# Altium footprint library PALib.PcbLib: 29 footprints (part 1 of 2)
Each footprint in its own frame and in the unit in brackets; x right, y up, seen from the top. Pads: shape width x height; smd on the part's side, far side on the other; paste and mask are expansions set on the pad; w line width, h text height; cw(c..) or ccw(c..) is an arc to the next point about the centre after c.
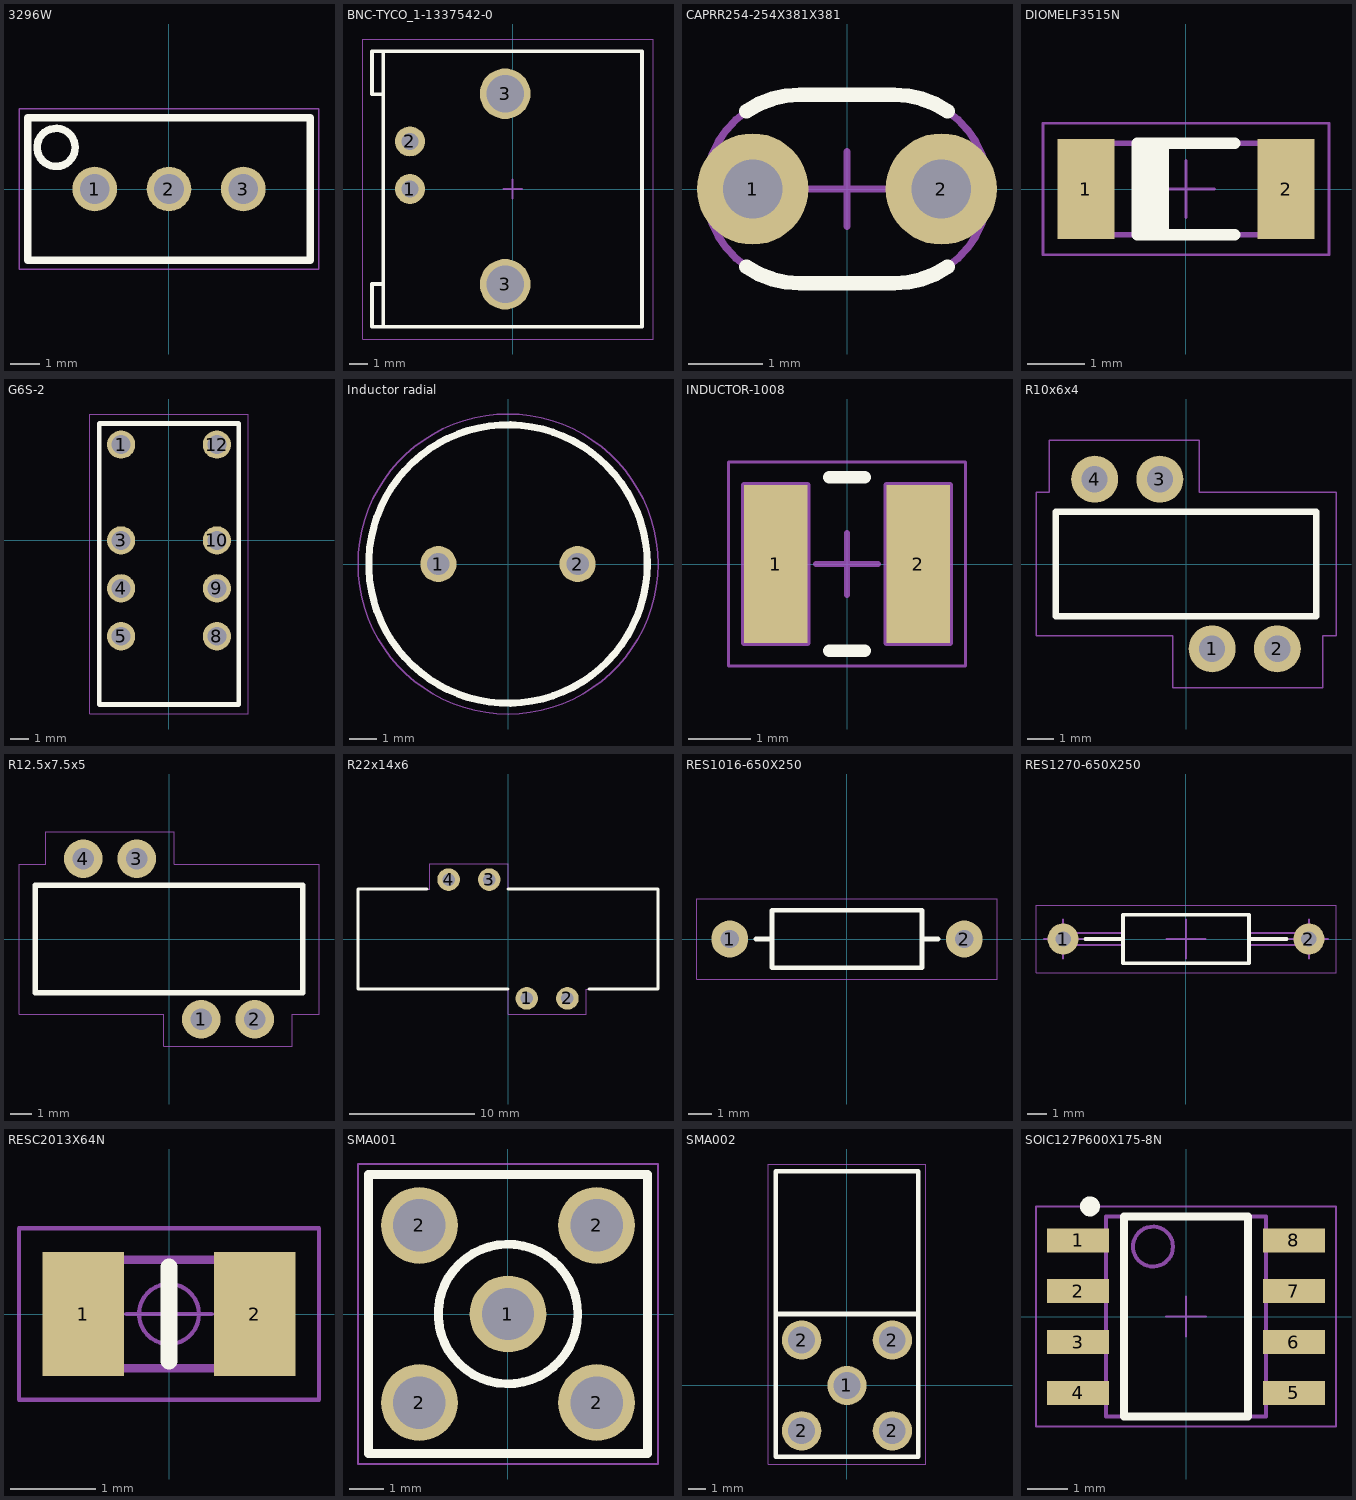
[diagram p0: the footprints below, top view; thin cyan lines are the x and y axes]

## 3296W [mm] "Square Trimming Potentiometer"
height 12
pads (3):
  round 1.5 hole 1: 1(-2.5,0) 2(0,0) 3(2.5,0)
Top Overlay:
  circle w0.254: c-3.8,1.4 r0.64
  lines w0.254: -4.75,-2.4 4.75,-2.4 4.75,2.4 -4.75,2.4 -4.75,-2.4
Top Courtyard:
  lines w0.05: -5.05,-2.7 5.05,-2.7 5.05,2.7 -5.05,2.7 -5.05,-2.7
3D body "Potentiometer-3296_Bourns.STEP": height 11.55, standoff -7.62, extent -4.765,-2.415 4.765,2.415

## BNC-TYCO_1-1337542-0 [mm] "50 Ohms  BNC Elbow PCB Socket With Mounting Posts"
height 13.16
pads (4):
  round 1.6 hole 0.9: 1(-5.48,0) 2(-5.48,2.54)
  round 2.7 hole 2: 3(-0.4,-5.08) 3(-0.4,5.08)
Top Overlay:
  lines w0.2: -6.9,-7.35 -6.9,7.35 ; -6.9,-5.061 -7.5,-5.061 -7.5,-7.35 6.9,-7.35 6.9,7.35 -7.5,7.35 -7.5,5.061 -6.9,5.05
Mechanical 8:
  lines w0.1: -5.98,0 -5.48,0 ; -5.98,2.54 -5.48,2.54 ; -5.48,-0.5 -5.48,0 ; -5.48,0.5 -5.48,0 ; -5.48,2.04 -5.48,2.54 ; -5.48,3.04 -5.48,2.54 ; -4.98,0 -5.48,0 ; -4.98,2.54 -5.48,2.54 ; -0.9,-5.08 -0.4,-5.08 ; -0.9,5.08 -0.4,5.08 ; -0.5,0 0,0 ; -0.4,-5.58 -0.4,-5.08 ; -0.4,-4.58 -0.4,-5.08 ; -0.4,4.58 -0.4,5.08 ; -0.4,5.58 -0.4,5.08 ; 0,-0.5 0,0 ; 0,0.5 0,0 ; 0.1,-5.08 -0.4,-5.08 ; 0.1,5.08 -0.4,5.08 ; 0.5,0 0,0
Mechanical 14:
  lines w0.1: -6.9,-7.35 -6.9,7.35 ; -6.9,-5.061 -7.5,-5.061 -7.5,-7.35 6.9,-7.35 6.9,7.35 -7.5,7.35 -7.5,5.061 -6.9,5.05
Top Courtyard:
  lines w0.05: -8,-8 7.5,-8 7.5,8 -8,8 -8,-8
3D body "TYCO_1-1337542-0.stp": height 13.16, standoff -4.3, extent -7.5,-7.35 28,7.35

## CAPRR254-254X381X381 [mm] "Capacitor Radial Rounded, Pin spacing 2.54mm - Body With 2.54mm X Body Length 3.81mm X Body Height 3.81mm"
height 3.81
pads (2):
  round 1.5 hole 0.8: 1(-1.27,0) 2(1.27,0)
Top Overlay:
  lines w0.2: -1.354,-1.047 ccw(c-0.635,0) -0.635,-1.27 0.635,-1.27 ccw(c0.635,0) 1.354,-1.047 ; -1.354,1.047 cw(c-0.635,0) -0.635,1.27 0.635,1.27 cw(c0.635,0) 1.354,1.047
Mechanical 8:
  lines w0.1: -1.77,0 -1.27,0 ; -1.27,-0.5 -1.27,0 ; -1.27,0.5 -1.27,0 ; -0.77,0 -1.27,0 ; -0.5,0 0,0 ; 0,-0.5 0,0 ; 0,0.5 0,0 ; 0.5,0 0,0 ; 0.77,0 1.27,0 ; 1.27,-0.5 1.27,0 ; 1.27,0.5 1.27,0 ; 1.77,0 1.27,0
Mechanical 14:
  lines w0.1: -0.635,-1.27 cw(c-0.635,0) -0.635,1.27 0.635,1.27 cw(c0.635,0) 0.635,-1.27 -0.635,-1.27
3D body "CAPRR254-254X381X381.stp": height 3.81, standoff -5.27, extent -1.905,-1.27 1.905,1.27

## DIOMELF3515N [mm] "SOD80C, MELF Diode, 2-Leads, Body 3.5x1.5mm, IPC Medium Density"
height 1.6
pads (2):
  rect 1x1.75 smd: 1(-1.75,0) 2(1.75,0)
Top Overlay:
  rectangle: -0.85,-0.8 -0.3,0.8
  lines w0.2: 0.85,-0.8 -0.85,-0.8 -0.85,0.8 0.85,0.8
Mechanical 14:
  lines w0.1: -1.802,-0.8 -1.802,0.8 ; -1.727,-0.8 -1.727,0.8 ; -1.652,-0.8 -1.652,0.8 ; -1.577,-0.8 -1.577,0.8 ; -1.502,-0.8 -1.502,0.8 ; -1.427,-0.8 -1.427,0.8 ; -1.352,-0.8 -1.352,0.8 ; -1.85,-0.8 -1.85,0.8 1.85,0.8 1.85,-0.8 -1.85,-0.8
Top Courtyard:
  lines w0.05: -0.5,0 0.5,0 ; 0,-0.5 0,0.5 ; -2.5,-1.15 -2.5,1.15 2.5,1.15 2.5,-1.15 -2.5,-1.15
3D body "DIOMELF3515N.stp": height 1.6, standoff 0, extent -1.85,-0.8 1.85,0.8

## G6S-2 [mm] "Compact, Industry-Standard 2-pole relay,  designed to switch 2A Signal Loads"
height 9.2
pads (8):
  round 1.5 hole 1: 1(-2.54,5.08) 3(-2.54,0) 4(-2.54,-2.54) 5(-2.54,-5.08) 8(2.54,-5.08) 9(2.54,-2.54) 10(2.54,0) 12(2.54,5.08)
Top Overlay:
  lines w0.254: -3.7,-8.7 3.7,-8.7 3.7,6.2 -3.7,6.2 -3.7,-8.7
Top Courtyard:
  lines w0.05: -4.2,-9.2 4.2,-9.2 4.2,6.7 -4.2,6.7 -4.2,-9.2
3D body "G6S-2 DC12--3DModel-STEP-1.STEP": height 9.2, standoff -2.95, extent -3.65,-8.65 3.65,6.15

## Inductor radial [mm] "5.0mm"
height 13
pads (2):
  round 1.3 hole 0.8: 1(-2.5,0) 2(2.5,0)
Top Overlay:
  circle w0.254: c0,0 r5
Top Courtyard:
  circle w0.05: c0,0 r5.385
3D body "inductor-radial-rl622-3r3k-rc.stp": height 11, standoff -5, extent -4.25,-4.25 4.25,4.25

## INDUCTOR-1008 [mm] "SMD Inductor Body Width 2.79m Body Lenght 2.92mm Height 2.03mm"
height 2.03
pads (2):
  rect 1.02x2.54 smd: 1(-1.145,0) 2(1.145,0)
Top Overlay:
  lines w0.2: -0.285,-1.395 0.285,-1.395 ; -0.285,1.395 0.285,1.395
Mechanical 8:
  lines w0.1: -1.645,0 -1.145,0 ; -1.145,-0.5 -1.145,0 ; -1.145,0.5 -1.145,0 ; -0.645,0 -1.145,0 ; -0.5,0 0,0 ; 0,-0.5 0,0 ; 0,0.5 0,0 ; 0.5,0 0,0 ; 0.645,0 1.145,0 ; 1.145,-0.5 1.145,0 ; 1.145,0.5 1.145,0 ; 1.645,0 1.145,0 ; -1.655,-1.27 -0.635,-1.27 -0.635,1.27 -1.655,1.27 -1.655,-1.27 ; 0.635,-1.27 1.655,-1.27 1.655,1.27 0.635,1.27 0.635,-1.27
Top Courtyard:
  lines w0.05: -1.905,-1.645 1.905,-1.645 1.905,1.645 -1.905,1.645 -1.905,-1.645
3D body "IND_COILCRAFT_1008CS.stp": height 2.18, standoff 0, extent -1.46,-1.395 1.46,1.395

## R10x6x4 [mm]
height 12
pads (4):
  round 1.8 hole 1: 1(1,-3.25) 2(3.5,-3.25) 3(-1,3.25) 4(-3.5,3.25)
Top Overlay:
  lines w0.254: -5,-2 5,-2 5,2 -5,2 -5,-2
Top Courtyard:
  lines w0.05: -5.75,-2.75 -0.5,-2.75 -0.5,-4.75 5.25,-4.75 5.25,-2.75 5.75,-2.75 5.75,2.75 0.5,2.75 0.5,4.75 -5.25,4.75 -5.25,2.75 -5.75,2.75 -5.75,-2.75
3D body: height 10, standoff 0, extent -5,-2 5,2

## R12.5x7.5x5 [mm]
height 12
pads (4):
  round 1.8 hole 1: 1(1.5,-3.75) 2(4,-3.75) 3(-1.5,3.75) 4(-4,3.75)
Top Overlay:
  lines w0.254: -6.25,-2.5 6.25,-2.5 6.25,2.5 -6.25,2.5 -6.25,-2.5
Top Courtyard:
  lines w0.05: -7,-3.5 -0.25,-3.5 -0.25,-5 5.75,-5 5.75,-3.5 7,-3.5 7,3.5 0.25,3.5 0.25,5 -5.75,5 -5.75,3.5 -7,3.5 -7,-3.5
3D body: height 12.5, standoff 0, extent -6.25,-2.5 6.25,2.5

## R22x14x6 [mm]
height 22
pads (4):
  round 1.8 hole 1: 1(1.5,-4.75) 2(4.75,-4.75) 3(-1.5,4.75) 4(-4.75,4.75)
Top Overlay:
  lines w0.254: -6.5,4 -12,4 -12,-4 0,-4 ; 0,4 12,4 12,-4 6.5,-4
Top Courtyard:
  lines w0.05: -12,-4 -12,4 -6.25,4 -6.25,6 0,6 0,4 12,4 12,-4 6.25,-4 6.25,-6 0,-6 0,-4 -12,-4
3D body: height 22, standoff 0, extent -11,-3 11,3

## RES1016-650X250 [mm] "Resistor, Axial, Pad spacing 10.16 mm - Body Lengh 6.5mm X Body Diameter 2.5mm"
height 2.5
pads (2):
  round 1.6 hole 0.8: 1(-5.08,0) 2(5.08,0)
Top Overlay:
  lines w0.2: -3.95,0 -3.25,0 ; 3.25,0 3.95,0 ; -3.25,-1.25 3.25,-1.25 3.25,1.25 -3.25,1.25 -3.25,-1.25
Mechanical 14:
  lines w0.1: -3.95,0 -3.25,0 ; 3.25,0 3.95,0 ; -3.25,-1.25 -3.25,1.25 3.25,1.25 3.25,-1.25 -3.25,-1.25
Top Courtyard:
  lines w0.05: -6.5,-1.75 6.5,-1.75 6.5,1.75 -6.5,1.75 -6.5,-1.75
3D body "RES1016-650X250.stp": height 2.51, standoff -3.2, extent -5.38,-1.27 5.38,1.26

## RES1270-650X250 [mm] "Resistor, Axial, Pad spacing 10.16 mm - Body Lengh 6.6mm X Body Diameter 2.5mm"
height 2.5
pads (2):
  round 1.6 hole 0.8: 1(-6.35,0) 2(6.35,0)
Top Overlay:
  lines w0.2: -5.2,0 -3.25,0 ; 3.25,0 5.2,0 ; -3.25,-1.25 3.25,-1.25 3.25,1.25 -3.25,1.25 -3.25,-1.25
Mechanical 8:
  lines w0.1: -7.35,0 -6.35,0 ; -6.35,-1 -6.35,0 ; -6.35,1 -6.35,0 ; -5.35,0 -6.35,0 ; -1,0 0,0 ; 0,-1 0,0 ; 0,1 0,0 ; 1,0 0,0 ; 5.35,0 6.35,0 ; 6.35,-1 6.35,0 ; 6.35,1 6.35,0 ; 7.35,0 6.35,0
Mechanical 14:
  lines w0.1: -3.25,-0.3 -6.336,-0.3 cw(c-6.35,0) -6.343,0.3 -3.25,0.3 ; 3.25,-0.3 6.35,-0.3 ccw(c6.35,0) 6.35,0.3 3.25,0.3 ; -3.25,-1.25 -3.25,1.25 3.25,1.25 3.25,-1.25 -3.25,-1.25
Top Courtyard:
  lines w0.05: -7.75,-1.75 7.75,-1.75 7.75,1.75 -7.75,1.75 -7.75,-1.75
3D body "RES1270-650X250.stp": height 2.5, standoff -3.6, extent -6.65,-1.25 6.65,1.25

## RESC2013X64N [mm] "Chip Resistor, EIA 0805, Metric 2013, Body 2.03x1.27mm, IPC Medium Density"
height 0.64
pads (2):
  rect 0.95x1.45 smd: 1(-1,0) 2(1,0)
Top Overlay:
  lines w0.2: 0,-0.55 0,0.55
Mechanical 14:
  lines w0.1: -1.015,-0.635 -1.015,0.635 1.015,0.635 1.015,-0.635 -1.015,-0.635
Top Courtyard:
  circle w0.05: c0,0 r0.35
  lines w0.05: -0.5,0 0.5,0 ; 0,-0.5 0,0.5 ; -1.75,-1 -1.75,1 1.75,1 1.75,-1 -1.75,-1
3D body "RESC2013X64N.stp": height 0.64, standoff 0, extent -1.016,-0.635 1.016,0.635

## SMA001 [mm] "SMA Connector Series"
height 13.5
pads (5):
  round 2.2 hole 1.5: 1(0,0) 2(-2.54,-2.54) 2(-2.54,2.54) 2(2.54,-2.54) 2(2.54,2.54)
Top Overlay:
  circle w0.254: c0,0 r2
  lines w0.254: -4,-4 4,-4 4,4 -4,4 -4,-4
Top Courtyard:
  lines w0.05: -4.3,-4.3 4.3,-4.3 4.3,4.3 -4.3,4.3 -4.3,-4.3
3D body "sma-molex-733910060.stp": height 9.55, standoff -3.95, extent -3.129,-3.126 3.129,3.126

## SMA002 [mm] "SMA Connector Series"
height 13.5
pads (5):
  round 2.2 hole 1.5: 1(0,0) 2(-2.54,-2.54) 2(-2.54,2.54) 2(2.54,-2.54) 2(2.54,2.54)
Top Overlay:
  lines w0.254: -4,-4 4,-4 ; -4,-4 -4,4 4,4 4,-4 ; -4,-4 -4,12 4,12 4,-4 ; -4,-4 4,-4
Top Courtyard:
  lines w0.05: -4.4,-4.4 4.4,-4.4 4.4,12.4 -4.4,12.4 -4.4,-4.4
3D body "sma-molex-733910080.stp": height 9.97, standoff -3.53, extent -3.175,-3.175 3.175,11.625

## SOIC127P600X175-8N [mm] "SOIC 8, Pitch 1.27mm - Body 4x5mm, IPC Medium Density"
height 1.75
pads (8):
  rect 1.55x0.6 smd: 1(-2.7,1.905) 2(-2.7,0.635) 3(-2.7,-0.635) 4(-2.7,-1.905) 5(2.7,-1.905) 6(2.7,-0.635) 7(2.7,0.635) 8(2.7,1.905)
Top Overlay:
  circle w0.25: c-2.4,2.755 r0.125
  lines w0.2: -1.55,-2.5 1.55,-2.5 1.55,2.5 -1.55,2.5 -1.55,-2.5
Mechanical 14:
  circle w0.1: c-0.825,1.75 r0.5
  lines w0.1: -2,-2.5 2,-2.5 2,2.5 -2,2.5 -2,-2.5
Top Courtyard:
  lines w0.05: -0.5,0 0.5,0 ; 0,-0.5 0,0.5 ; -3.75,-2.75 3.75,-2.75 3.75,2.75 -3.75,2.75 -3.75,-2.75
3D body "SOIC127P600X175-8N.stp": height 1.75, standoff 0, extent -3.1,-2.5 3.1,2.5